# Altium schematic symbol library Connectors.SchLib: 20 symbols
Pins are listed as number, name and electrical type; pins without a type are passive.

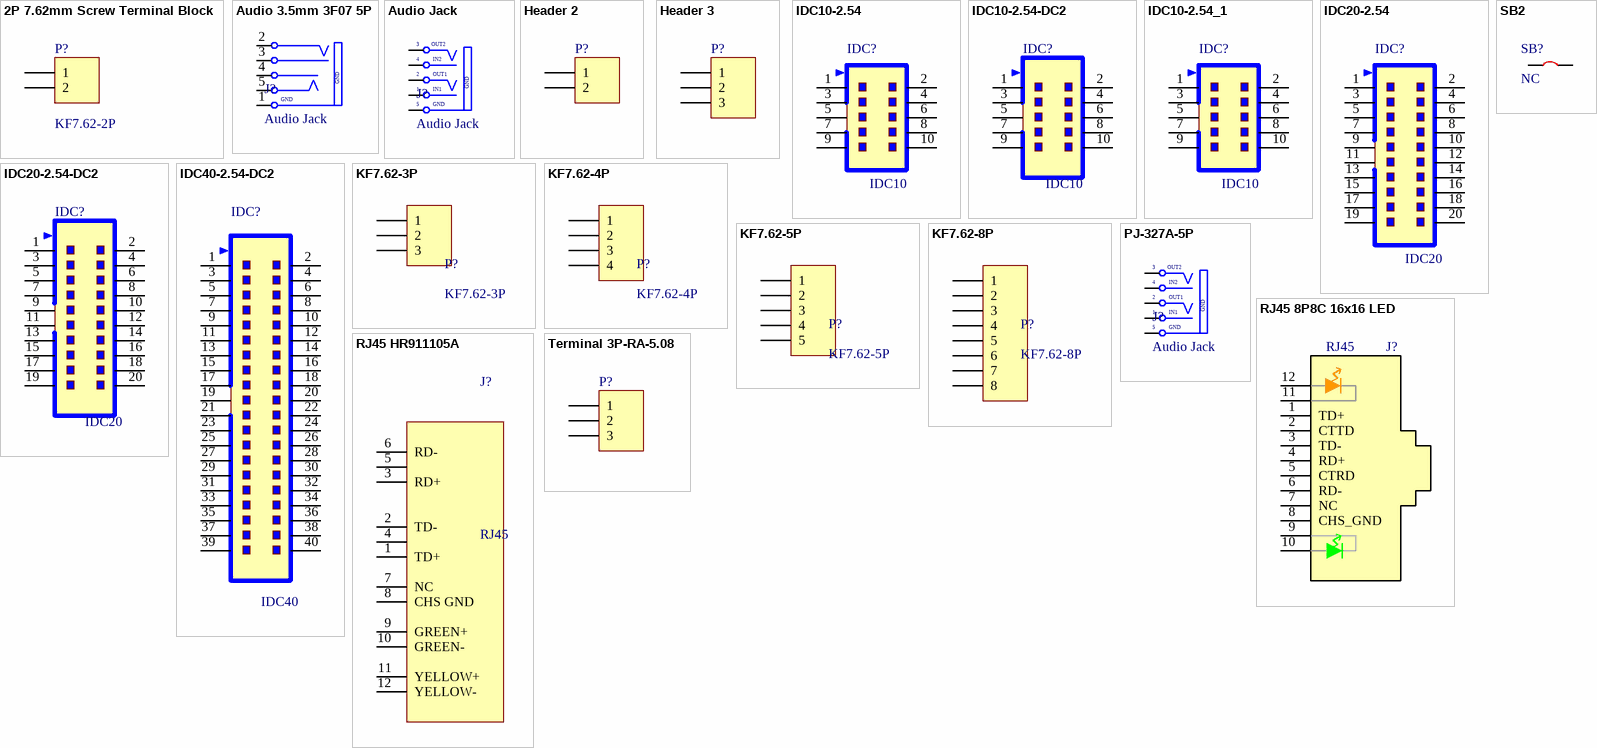
[diagram p0: symbols 2P 7.62mm Screw Terminal Block to Terminal 3P-RA-5.08]

## 2P 7.62mm Screw Terminal Block
designator P?, comment KF7.62-2P
Screw Terminal Block 2P, 7.62mm; Pitch: 7.62mm; Part number: *; Digi-Key Part Number: *
footprint KF7.62-2P
pins: 1, 2

## Audio 3.5mm 3F07 5P
designator J?, comment Audio Jack
Creat by: VanDungEvn@Gmail.com
footprint 3F07-5P
pins: 1 GND "Tip", 2 TN "Tip Normal (Break Contact)", 3 S (power) "Sleeve (Ground)", 4 S1 "Tip Normal (Break Contact)", 5 S1 (power) "Sleeve (Ground)"

## Audio Jack
designator J?
Creat by: VanDungEvn@Gmail.com
pins: 1 S1 (power) "Sleeve (Ground)", 2 S1 "Tip Normal (Break Contact)", 3 TN "Tip Normal (Break Contact)", 4 S (power) "Sleeve (Ground)", 5 GND "Tip"
text: OUT2; IN2; OUT1; IN1

## Header 2
designator P?
Header, 2-Pin; LatestRevisionDate: 17-Jul-2002; LatestRevisionNote: Re-released for DXP Platform.; Publisher: Altium Limited
footprint HEADER 2PIN (PAD 1.65mm, Drill 1mm)
footprint 2P-XH2.54 (PAD 1.65mm, Drill 1mm)
footprint KF7.62-2P
footprint 2P-VH3.96
footprint KF128-2P-5.08
pins: 1, 2

## Header 3
designator P?
Header, 3-Pin; LatestRevisionDate: 17-Jul-2002; LatestRevisionNote: Re-released for DXP Platform.; Publisher: Altium Limited
footprint Terminal 3P-RA-5.08
pins: 1, 2, 3

## IDC10-2.54
designator IDC?, comment IDC10
2.54mm 10-PIN IDC Socket Connector. 1A; Value: IDC10
footprint IDC10-V
pins: 1, 2, 3, 4, 5, 6, 7, 8, 9, 10

## IDC10-2.54-DC2
designator IDC?, comment IDC10
2.54mm 10-PIN IDC DC2 Socket Connector. 1A; Value: IDC10
footprint IDC DC2 10P
pins: 1, 2, 3, 4, 5, 6, 7, 8, 9, 10

## IDC10-2.54_1
designator IDC?, comment IDC10
2.54mm 10-PIN IDC Socket Connector. 1A; Value: IDC10
footprint IDC10-V
pins: 1, 2, 3, 4, 5, 6, 7, 8, 9, 10

## IDC20-2.54
designator IDC?, comment IDC20
2.54mm 20-PIN IDC Socket Connector. 1A
footprint IDC20 (Header 10x2,20 pin, connecter)
pins: 1, 2, 3, 4, 5, 6, 7, 8, 9, 10, 11, 12, 13, 14, 15, 16, 17, 18, 19, 20

## IDC20-2.54-DC2
designator IDC?, comment IDC20
2.54mm 20-PIN IDC DC2 Socket Connector. 1A
footprint IDC DC2 20P (Header 10x2,20 pin, connecter)
pins: 1, 2, 3, 4, 5, 6, 7, 8, 9, 10, 11, 12, 13, 14, 15, 16, 17, 18, 19, 20

## IDC40-2.54-DC2
designator IDC?, comment IDC40
2.54mm 40-PIN IDC DC2 Socket Connector. 1A
footprint IDC DC2 40P (80 pins, dual row)
pins: 1, 2, 3, 4, 5, 6, 7, 8, 9, 10, 11, 12, 13, 14, 15, 16, 17, 18, 19, 20, 21, 22, 23, 24, 25, 26, 27, 28, 29, 30, 31, 32, 33, 34, 35, 36, 37, 38, 39, 40

## KF7.62-3P
designator P?
Domino 3P 7.62mm; Designator: P?
footprint KF7.62-3P
pins: 1, 2, 3

## KF7.62-4P
designator P?
Domino 4P 7.62mm; Designator: P?
footprint KF7.62-4P
pins: 1, 2, 3, 4

## KF7.62-5P
designator P?
Domino 5P 7.62mm; Designator: P?
footprint KF7.62-5P
pins: 1, 2, 3, 4, 5

## KF7.62-8P
designator P?
Domino 8P 7.62mm; Designator: P?
footprint KF7.62-8P
pins: 1, 2, 3, 4, 5, 6, 7, 8

## PJ-327A-5P
designator J?, comment Audio Jack
Creat by: VanDungEvn@Gmail.com
pins: 1 S1 (power) "Sleeve (Ground)", 2 S1 "Tip Normal (Break Contact)", 3 TN "Tip Normal (Break Contact)", 4 S (power) "Sleeve (Ground)", 5 GND "Tip"
text: OUT2; IN2; OUT1; IN1

## RJ45 8P8C 16x16 LED
designator J?, comment RJ45
RJ45 MALE 8P8C 8 Pin LED 16x16mm; ComponentLink1Description: New link; ComponentLink1URL: https://www.thegioiic.com/products/cong-rj45-cai-8p8c-8-chan-co-led-16x16mm
footprint RJ45 8P8C LED 16x16 (16.26x15.75mm)
pins: 1 TD+, 2 CTTD, 3 TD-, 4 RD+, 5 CTRD, 6 RD-, 7 NC, 8 CHS_GND, 9, 10, 11, 12

## RJ45 HR911105A
designator J?, comment RJ45
HR911105A RJ45 with Magnetics & LED
footprint RJ45 HR911105A (16x21mm)
pins: 1 TD+, 2 TD-, 3 RD+, 4, 5, 6 RD-, 7 NC, 8 CHS GND, 9 GREEN+, 10 GREEN-, 11 YELLOW+, 12 YELLOW-

## SB2
designator SB?, comment NC
footprint SB2
pins: 1 0, 2

## Terminal 3P-RA-5.08
designator P?
Header, 3-Pin; LatestRevisionDate: 17-Jul-2002; LatestRevisionNote: Re-released for DXP Platform.; Publisher: Altium Limited
footprint Terminal 3P-RA-5.08
pins: 1, 2, 3